# Altium schematic symbol library MTCH6301.SchLib: 1 symbol
Pins are listed as number, name and electrical type; pins without a type are passive.

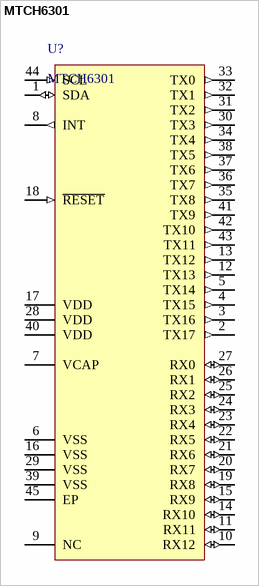
[diagram p0: symbol MTCH6301]

## MTCH6301
designator U?
pins: 1 SDA (io), 2 TX17 (out), 3 TX16 (out), 4 TX15 (out), 5 TX14 (out), 6 VSS (power), 7 VCAP (power), 8 INT (out), 9 NC, 10 RX12 (io), 11 RX11 (io), 12 TX13 (out), 13 TX12 (out), 14 RX10 (io), 15 RX9 (io), 16 VSS (power), 17 VDD (power), 18 ~{RESET} (in), 19 RX8 (io), 20 RX7 (io), 21 RX6 (io), 22 RX5 (io), 23 RX4 (io), 24 RX3 (io), 25 RX2 (io), 26 RX1 (io), 27 RX0 (io), 28 VDD (power), 29 VSS (power), 30 TX3 (out), 31 TX2 (out), 32 TX1 (out), 33 TX0 (out), 34 TX4 (out), 35 TX8 (out), 36 TX7 (out), 37 TX6 (out), 38 TX5 (out), 39 VSS (power), 40 VDD (power), 41 TX9 (out), 42 TX10 (out), 43 TX11 (out), 44 SCL (in), 45 EP (power)